# EAGLE library part EPF10K100-IO4 (library mita-akiba)
EPF10K100ARC240 I/O pins 184-237: 39 pins
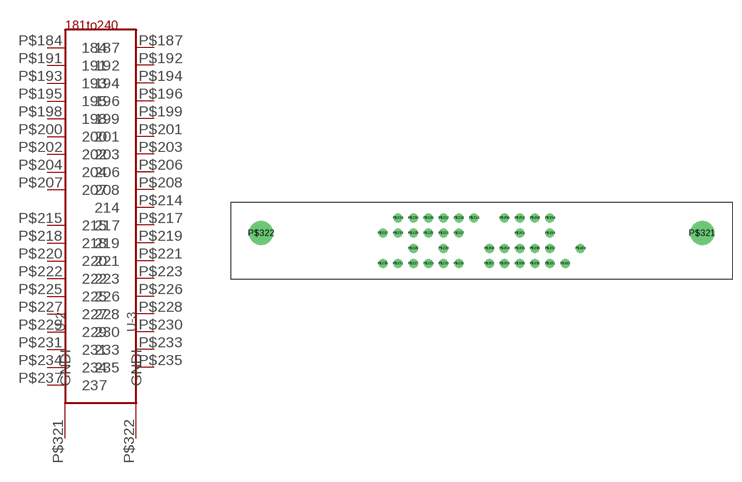
[diagram p16: symbol with the pads of EPF10K100A24IO4; footprint EPF10K100A24IO4]

Designator prefix -; gates -2=GNDINT -3=GNDINT G$1=EPF10K100A-IO4

## EPF10K100-IO4  [EPF10K100A24IO4]
P$184  G$1:184
P$187  G$1:187
P$191  G$1:191
P$192  G$1:192
P$193  G$1:193
P$194  G$1:194
P$195  G$1:195
P$196  G$1:196
P$198  G$1:198
P$199  G$1:199
P$200  G$1:200
P$201  G$1:201
P$202  G$1:202
P$203  G$1:203
P$204  G$1:204
P$206  G$1:206
P$207  G$1:207
P$208  G$1:208
P$214  G$1:214
P$215  G$1:215
P$217  G$1:217
P$218  G$1:218
P$219  G$1:219
P$220  G$1:220
P$221  G$1:221
P$222  G$1:222
P$223  G$1:223
P$225  G$1:225
P$226  G$1:226
P$227  G$1:227
P$228  G$1:228
P$229  G$1:229
P$230  G$1:230
P$231  G$1:231
P$233  G$1:233
P$234  G$1:234
P$235  G$1:235
P$237  G$1:237
P$321  -2:GNDI  pwr
P$322  -3:GNDI  pwr

## Footprint EPF10K100A24IO4 (pad centres in mm)
FLEX10K100ARC240 User I/O 4th line
drill 0.9 pad 1.5: P$184 16.51,34.29; P$187 13.97,31.75; P$191 11.43,31.75; P$192 11.43,34.29; P$193 11.43,36.83; P$194 11.43,39.37; P$195 8.89,31.75; P$196 8.89,34.29; P$198 8.89,39.37; P$199 6.35,31.75; P$200 6.35,34.29; P$201 6.35,36.83; P$202 6.35,39.37; P$203 3.81,31.75; P$204 3.81,34.29; P$206 3.81,39.37; P$207 1.27,31.75; P$208 1.27,34.29; P$214 -1.27,39.37; P$215 -3.81,31.75; P$217 -3.81,36.83; P$218 -3.81,39.37; P$219 -6.35,31.75; P$220 -6.35,34.29; P$221 -6.35,36.83; P$222 -6.35,39.37; P$223 -8.89,31.75; P$225 -8.89,36.83; P$226 -8.89,39.37; P$227 -11.43,31.75; P$228 -11.43,34.29; P$229 -11.43,36.83; P$230 -11.43,39.37; P$231 -13.97,31.75; P$233 -13.97,36.83; P$234 -13.97,39.37; P$235 -16.51,31.75; P$237 -16.51,36.83
drill 3 pad 4: P$321 36.83,36.83; P$322 -36.83,36.83